# Altium schematic symbol library Power Devices.SchLib: 15 symbols
Pins are listed as number, name and electrical type; pins without a type are passive.

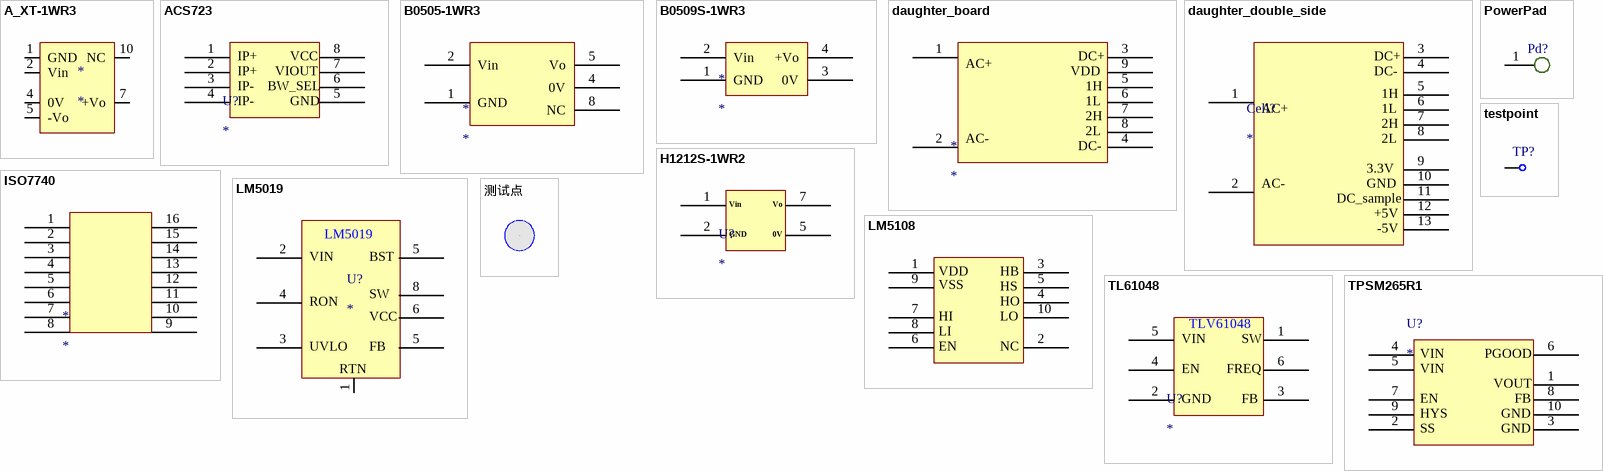
[diagram p0: symbols A_XT-1WR3 to 测试点]

## A_XT-1WR3
designator *
footprint A_XT-1WR3
pins: 1 GND, 2 Vin, 4 0V, 5 -Vo, 7 +Vo, 10 NC

## ACS723
designator U?
pins: 1 IP+, 2 IP+, 3 IP+, 4 IP+, 5, 6, 7, 8
text: VCC; VIOUT; IP-; BW_SEL; GND

## B0505-1WR3
designator *
pins: 1 GND, 2 Vin, 4 0V, 5 Vo, 8 NC

## B0509S-1WR3
designator *
pins: 1 GND, 2 Vin, 3 0V, 4 +Vo

## daughter_board
designator *
pins: 1 AC+, 2 AC-, 3 DC+, 4 DC-, 5 1H, 6 1L, 7 2H, 8 2L, 9 VDD

## daughter_double_side
designator Cell?
pins: 1 AC+, 2 AC-, 3 DC+, 4 DC-, 5 1H, 6 1L, 7 2H, 8 2L, 9 3.3V, 10 GND, 11 DCs, 12, 13
text: DC_sample; +5V; -5V

## H1212S-1WR2
designator U?
金升阳模块
pins: 1 VIN, 2 GND, 5 0V, 7 VO
text: Vin; Vo

## ISO7740
designator *
pins: 1 RTN, 2, 3, 4, 5, 6, 7, 8, 9, 10, 11, 12, 13, 14, 15, 16

## LM5019
designator U?
pins: 1 RTN, 2 Vin, 3 UVLO, 4 Ron, 5 BST, 5 FB, 6 VCC, 8 SW
text: VIN; RON

## LM5108
designator U?
LM5108
pins: 1 VDD, 2 NC, 3 HB, 4 HO, 5 HS, 6 EN, 7 LI, 8 HI, 9 VSS, 10
text: LO

## PowerPad
designator Pd?  (value not drawn)
pins: 1 Pad

## testpoint
designator TP?  (value not drawn)
pins: 1 Pad

## TL61048
designator U?
pins: 1 SW, 2 GND, 3 FB, 4 EN, 5 Vin, 6 FREQ
text: TLV61048; VIN

## TPSM265R1
designator U?
pins: 1 VOUT, 2 SS, 3 GND, 4 VIN, 5 VIN, 6 PGOOD, 7 EN, 8 SENSE+/FB, 9 HYS, 10 GND
text: FB

## 测试点
designator T1  (value not drawn)
footprint TEST_PT
pins: 0